# Altium schematic symbol library QORVO_RADIO_SCHEMATIC_LIB.SchLib: 22 symbols
Pins are listed as number, name and electrical type; pins without a type are passive.

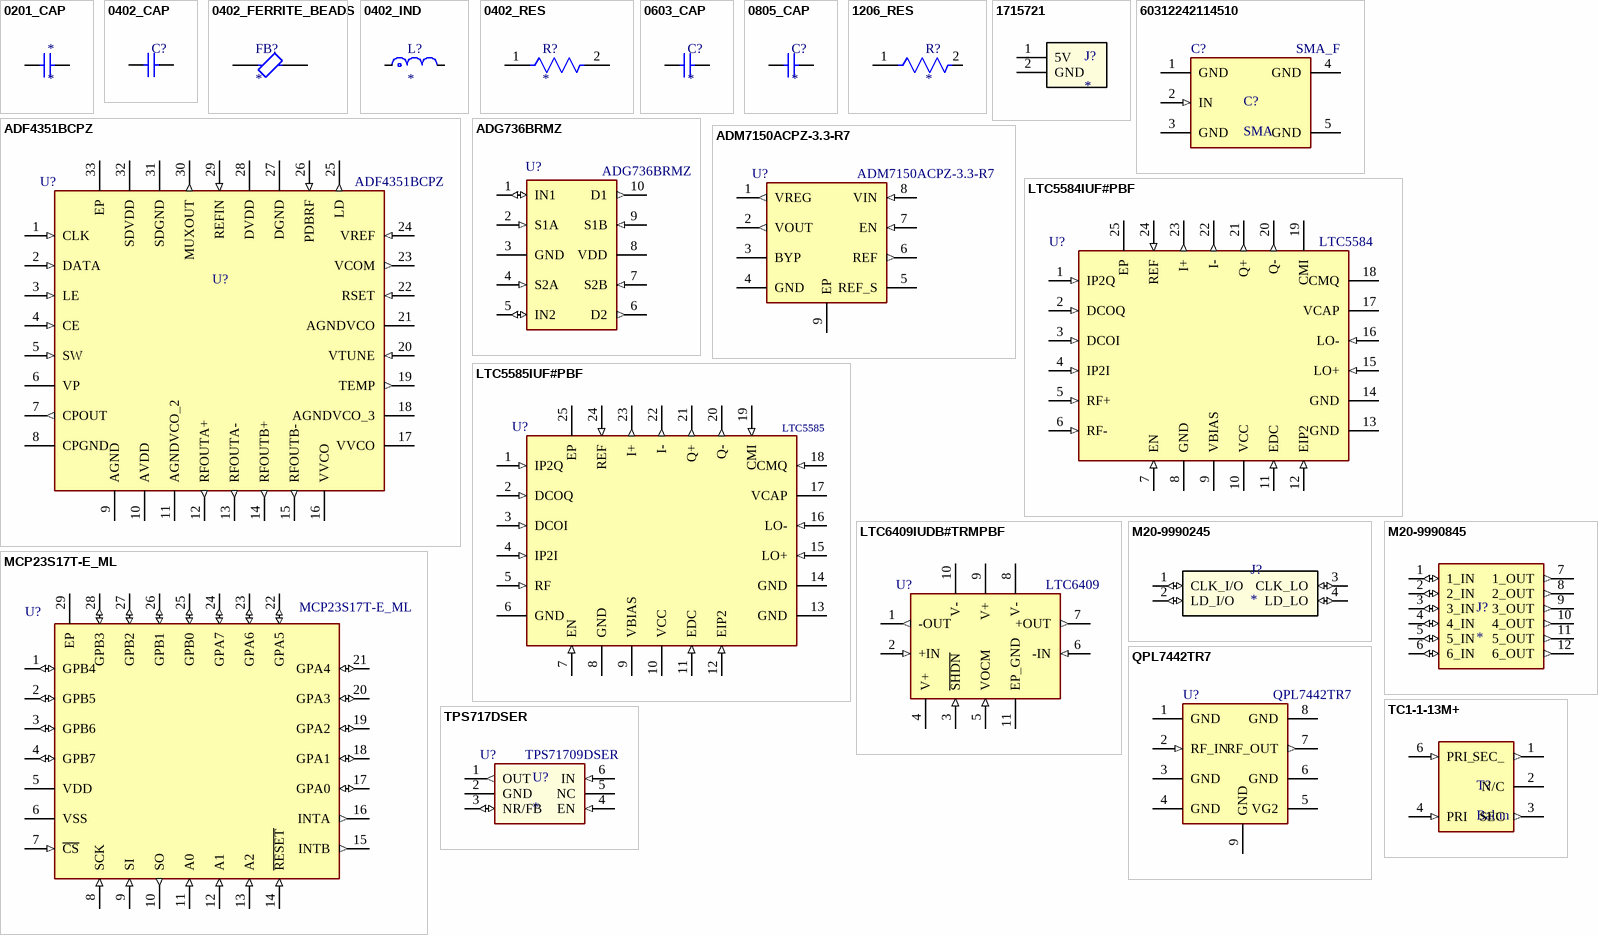
[diagram p0: symbols 0201_CAP to TPS717DSER]

## 0201_CAP
designator *
CAPACITOR
footprint 0201_CAP
pins: 1, 2

## 0402_CAP
designator C?
CAPACITOR; CAPACITANCE: *
footprint 0402 CAP_IND_RES
pins: 1, 2

## 0402_FERRITE_BEADS
designator FB?
FERRITE BEADS
footprint 0402 CAP_IND_RES
pins: 1, 2

## 0402_IND
designator L?
INDUCTOR
footprint 0402 CAP_IND_RES
pins: 1, 2

## 0402_RES
designator R?
RESISTOR
footprint 0402 CAP_IND_RES
pins: 1, 2

## 0603_CAP
designator C?
CAPACITOR; CAPACITANCE: *
footprint 0603_CAP
pins: 1, 2

## 0805_CAP
designator C?
CAPACITOR
footprint 0805_CAP
pins: 1, 2

## 1206_RES
designator R?
RESISTOR
footprint 1206_RES
pins: 1, 2

## 1715721
designator J?
PS HEADER; Mfr_Name: Phoenix Contact; RefDes: RefDes; Type: Type
footprint 1715721 (PS CONNECTOR)
pins: 1 5V (power), 2 GND (power)

## 60312242114510
designator C?, comment SMA
footprint 60312242114510 (FEMALE SMA - EDGE MOUNT)
pins: 1 GND (power), 2 IN (in), 3 GND (power), 4 GND (power), 5 GND (power)
text: SMA_F

## ADF4351BCPZ
designator U?  (value not drawn)
LO; Manufacturer_Name: Analog Devices; Manufacturer_Part_Number: ADF4351BCPZ; Datasheet Link: https://www.analog.com/media/en/technical-documentation/data-sheets/ADF4351.pdf
footprint ADF4351BCPZ (WIDEBAND SYNTHESIZER)
pins: 1 CLK (in), 2 DATA (in), 3 LE (in), 4 CE (in), 5 SW (in), 6 VP (power), 7 CPOUT (out), 8 CPGND (power), 9 AGND (power), 10 AVDD (power), 11 AGNDVCO_2 (power), 12 RFOUTA+ (out), 13 RFOUTA- (out), 14 RFOUTB+ (out), 15 RFOUTB- (out), 16 VVCO (power), 17 VVCO (power), 18 AGNDVCO_3 (power), 19 TEMP (out), 20 VTUNE (in), 21 AGNDVCO (power), 22 RSET (in), 23 VCOM (out), 24 VREF (in), 25 LD (out), 26 PDBRF (in), 27 DGND (power), 28 DVDD (power), 29 REFIN (in), 30 MUXOUT (out), 31 SDGND (power), 32 SDVDD (power), 33 EP (power)

## ADG736BRMZ
designator U?
Switch; Manufacturer_Name: Analog Devices; Manufacturer_Part_Number: ADG736BRMZ; Datasheet Link: http://www.analog.com/media/en/technical-documentation/data-sheets/ADG736.pdf
footprint ADG736BRMZ
pins: 1 IN1 (io), 2 S1A (in), 3 GND (power), 4 S2A (in), 5 IN2 (io), 6 D2 (out), 7 S2B (in), 8 VDD (power), 9 S1B (in), 10 D1 (out)

## ADM7150ACPZ-3.3-R7
designator U?
Volt Reg 3.3V; Manufacturer_Name: Analog Devices; Manufacturer_Part_Number: ADM7150ACPZ-3.3-R7; Datasheet Link: http://www.analog.com/media/en/technical-documentation/data-sheets/ADM7150.pdf
footprint ADM7150ACPZ-3.3-R7 (3.3V REG)
pins: 1 VREG (out), 2 VOUT (out), 3 BYP, 4 GND (power), 5 REF_S, 6 REF (out), 7 EN (in), 8 VIN (in), 9 EP (power)

## LTC5584IUF#PBF
designator U?, comment LTC5584
LE MIXER; Manufacturer_Name: Analog Devices; Manufacturer_Part_Number: LTC5584IUF#PBF; Datasheet Link: https://www.analog.com/media/en/technical-documentation/data-sheets/5584f.pdf
footprint LTC5584/LTC5585 (MIXERS / LTC5585IUF#PBF / LTC5584IUF#PBF)
pins: 1 IP2Q (in), 2 DCOQ (in), 3 DCOI (in), 4 IP2I (in), 5 RF+ (in), 6 RF- (in), 7 EN (in), 8 GND (power), 9 VBIAS (power), 10 VCC (power), 11 EDC (in), 12 EIP2 (in), 13 GND (power), 14 GND (power), 15 LO+ (in), 16 LO- (in), 17 VCAP (power), 18 CMQ (power), 19 CMI (power), 20 Q- (out), 21 Q+ (out), 22 I- (out), 23 I+ (out), 24 REF (in), 25 EP (power)

## LTC5585IUF#PBF
designator U?, comment LTC5585
HE MIXER; Manufacturer_Name: Analog Devices; Manufacturer_Part_Number: LTC5585IUF#PBF; Datasheet Link: https://www.analog.com/media/en/technical-documentation/data-sheets/5585fb.pdf
footprint LTC5584/LTC5585 (MIXERS / LTC5585IUF#PBF / LTC5584IUF#PBF)
pins: 1 IP2Q (in), 2 DCOQ (in), 3 DCOI (in), 4 IP2I (in), 5 RF (in), 6 GND (power), 7 EN (in), 8 GND (power), 9 VBIAS (power), 10 VCC (power), 11 EDC (in), 12 EIP2 (in), 13 GND (power), 14 GND (power), 15 LO+ (in), 16 LO- (in), 17 VCAP (power), 18 CMQ (in), 19 CMI (in), 20 Q- (out), 21 Q+ (out), 22 I- (out), 23 I+ (out), 24 REF (in), 25 EP (power)

## LTC6409IUDB#TRMPBF
designator U?, comment LTC6409
DIFF OP AMP; Manufacturer_Name: Analog Devices; Manufacturer_Part_Number: LTC6409IUDB#TRMPBF; Datasheet Link: https://www.analog.com/media/en/technical-documentation/data-sheets/6409fb.pdf
footprint LTC6409IUDB#TRMPBF (DIFFERENTAL OP-AMP)
pins: 1 -OUT (out), 2 +IN (in), 3 ~{SHDN} (in), 4 V+ (power), 5 VOCM (in), 6 -IN (in), 7 +OUT (out), 8 V- (power), 9 V+ (power), 10 V- (power), 11 EP_GND (power)

## M20-9990245
designator J?
2 PIN HEADER FOR LO; Mfr_Name: Harwin; RefDes: RefDes; Type: Type
footprint M20-9990245 (HEADER FOR I/O CONTROL - 2)
pins: 1 CLK_I/O (io), 2 LD_I/O (io), 3 CLK_LO (io), 4 LD_LO (io)

## M20-9990845
designator J?
8 pin header for I/O expander; MP: M20-9990645; Package: None; Price: None; Value: *; Availability: Unavailable
footprint M20-9990845 (HEADER FOR I/O CONTROL - 8 PIN)
pins: 1 1_IN (io), 2 2_IN (io), 3 3_IN (io), 4 4_IN (io), 5 5_IN (io), 6 6_IN (io), 7 1_OUT (out), 8 2_OUT (out), 9 3_OUT (out), 10 4_OUT (out), 11 5_OUT (out), 12 6_OUT (out)

## MCP23S17T-E_ML
designator U?
I/O Expanders 16bit; Manufacturer_Name: Microchip; Manufacturer_Part_Number: MCP23S17T-E/ML; Datasheet Link: https://ww1.microchip.com/downloads/aemDocuments/documents/APID/ProductDocuments/DataSheets/MCP23017-Data-Sheet-DS20001952.pdf
footprint MCP23S17T-E_ML (I/O EXPANDER)
pins: 1 GPB4 (io), 2 GPB5 (io), 3 GPB6 (io), 4 GPB7 (io), 5 VDD (power), 6 VSS (power), 7 ~{CS} (in), 8 SCK (in), 9 SI (in), 10 SO (out), 11 A0 (in), 12 A1 (in), 13 A2 (in), 14 ~{RESET} (in), 15 INTB (out), 16 INTA (out), 17 GPA0 (io), 18 GPA1 (io), 19 GPA2 (io), 20 GPA3 (io), 21 GPA4 (io), 22 GPA5 (io), 23 GPA6 (io), 24 GPA7 (io), 25 GPB0 (io), 26 GPB1 (io), 27 GPB2 (io), 28 GPB3 (io), 29 EP

## QPL7442TR7
designator U?
LNA; Manufacturer_Name: Qorvo; Manufacturer_Part_Number: QPL7442TR7; Datasheet Link: https://www.qorvo.com/products/d/da007775
footprint QPL7442TR7 (LNA)
pins: 1 GND (power), 2 RF_IN (in), 3 GND (power), 4 GND (power), 5 VG2, 6 GND (power), 7 RF_OUT (out), 8 GND (power), 9 GND (power)

## TC1-1-13M+
designator T?, comment Balun
ComponentLink1Description: Data Sheet; ComponentLink1URL: https://www.minicircuits.com/pdfs/TC1-1-13M+.pdf; ComponentLink2Description: Manufactuer; ComponentLink2URL: Mini-Circuits; ComponentLink3Description: Part Number; ComponentLink3URL: TC1-1-13M+
footprint TC1-1-13M+ (1:1 BALUN,)
pins: 1 SEC_ (out), 2 N/C, 3 SEC (out), 4 PRI (in), 6 PRI_ (in)

## TPS717DSER
designator U?
VOLT REG 0.9V; Mfr_Name: Texas Instruments; Manufacturer_part_number: TPS71733DSER; Data Sheet Link: https://www.ti.com/lit/ds/symlink/tps717.pdf?HQS=dis-dk-null-digikeymode-dsf-pf-null-wwe&ts=1731440412035&ref_url=https%253A%252F%252Fwww.ti.com%252Fgeneral%252Fdocs%252Fsuppproductinfo.tsp%253FdistId%253D10%2526gotoUrl%253Dhttps%253A%252F%252Fwww.ti.com%252Flit%252Fgpn%252Ftps717
footprint TPS71709DSER (0.9V REG)
pins: 1 OUT (out), 2 GND (power), 3 NR/FB (io), 4 EN (in), 5 NC, 6 IN (in)
text: TPS71709DSER